# Altium integrated library MAX8510EXK30T.IntLib: 1 symbol
Pins are listed as number, name and electrical type; pins without a type are passive.

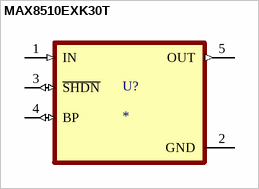
[diagram p0: symbol MAX8510EXK30T]

## MAX8510EXK30T
designator U?
DoÄŸrusal Voltaj RegÃ¼latÃ¶rÃ¼ IC Pozitif Sabit 1 Ã‡Ä±kÄ±ÅŸ 120mA SC-70-5; MF: Maxim Integrated Products; MP: MAX8510EXK30+T; SnapEDA_Link: https://www.snapeda.com/parts/MAX8510EXK30+T/Maxim+Integrated/view-part/?ref=snap; Package: SC-70-5 Maxim; Value: *; Check_prices: https://www.snapeda.com/parts/MAX8510EXK30+T/Maxim+Integrated/view-part/?ref=eda
footprint SOT65P210X110-5N
pins: 1 IN (in), 2 GND (power), 3 ~{SHDN} (io), 4 BP (io), 5 OUT (out)